# EAGLE library part MGA-24106-TR1G (library Avago_By_element14_Batch_1)
High-Gain, Low Current Low Noise Amplifier
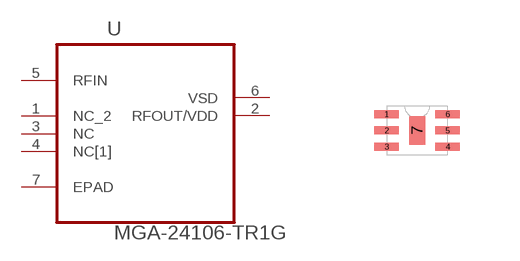
[diagram p18: symbol with the pads of DFN120X150X50-6N; footprint DFN120X150X50-6N]

Designator prefix U

## MGA-24106-TR1G (DESCRIPTION: High-Gain, Low Current Low Noise Amplifier; MPN: MGA-24106-TR1G; OC_FARNELL: 1865173; OC_NEWARK: 53R0127; PACKAGE: DFN-6; SUPPLIER: AVAGO TECHNOLOGIES)  [DFN120X150X50-6N]
1  NC_2  nc
2  RFOUT/VDD  out
3  NC  nc
4  NC[1]  nc
5  RFIN  in
6  VSD  pas
7  EPAD  pas

## Footprint DFN120X150X50-6N (pad centres in mm)
smd 0.61 x 0.203: 1 -0.762,0.406; 2 -0.762,0; 3 -0.762,-0.406; 4 0.762,-0.406; 5 0.762,0; 6 0.762,0.406
smd 0.406 x 0.711: 7 0,0